# Altium schematic symbol library IM O7.Schlib: 1 symbol
Pins are listed as number, name and electrical type; pins without a type are passive.

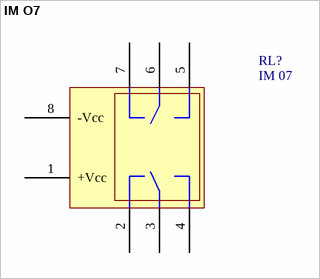
[diagram p0: symbol IM O7]

## IM O7
designator RL?, comment IM 07
Наименование: IM 07 (AXICOM); Назначение: Реле
footprint IM 07(AXICOM)
pins: 1 +Vcc (power), 2, 3, 4, 5, 6, 7, 8 -Vcc (power)